# EAGLE library part AN7147N (library Audio-Power-amlifier V.2.0)
The AN7147N is an integrated circuit designed for power amplifier of 5.3W (12.0V, 3½) output. Stereo operation is enabled due to incorporating two amps. on one chip. It makes high reliability by smaller quiescent current compared with power amp. current and protectors built in. As quiescent circuit current is very small, it is most suitably used for battery operated set such as radio cassette recorder. Furthermore, low distortion and low noise are realized and external components are very few. 12-pin SIL package enabled compact and high integrated set
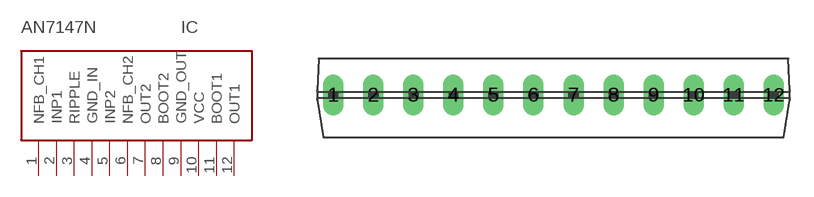
[diagram p132: symbol with the pads of HSIP012-P-0000B-2,54; footprint HSIP012-P-0000B-2,54]

Designator prefix IC

## AN7147N  [HSIP012-P-0000B-2,54]
1  NFB_CH1
2  INP1  in
3  RIPPLE
4  GND_IN  pwr
5  INP2  in
6  NFB_CH2
7  OUT2  out
8  BOOT2
9  GND_OUT  pwr
10  VCC  pwr
11  BOOT1
12  OUT1  out

## Footprint HSIP012-P-0000B-2,54 (pad centres in mm)
drill 0.8 long: 1 -13.97,0; 2 -11.43,0; 3 -8.89,0; 4 -6.35,0; 5 -3.81,0; 6 -1.27,0; 7 1.27,0; 8 3.81,0; 9 6.35,0; 10 8.89,0; 11 11.43,0; 12 13.97,0